# Altium schematic symbol library Diod.SchLib: 21 symbols
Pins are listed as number, name and electrical type; pins without a type are passive.

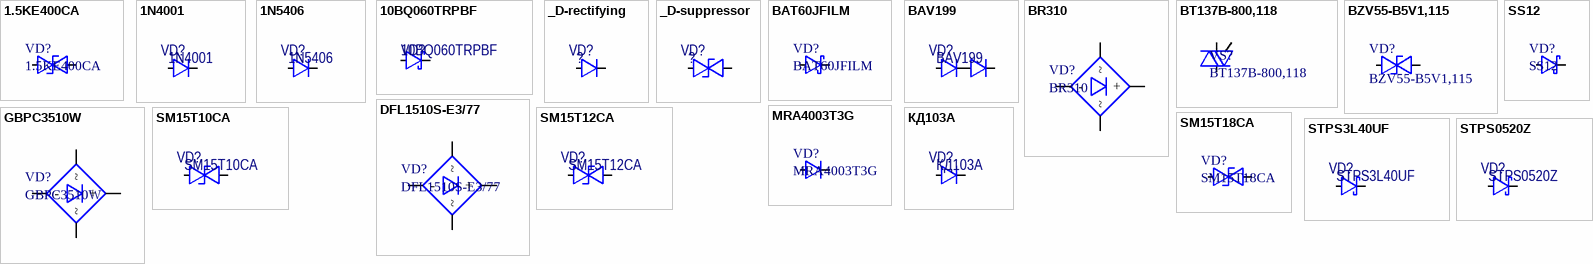
[diagram p0: symbols 1.5KE400CA to КД103А]

## 1.5KE400CA
designator VD?
Супрессор 342VWM 706VC AXIAL; Manufacturer: STMicroelectronics; Number of Elements: 1; Reverse Breakdown Voltage: 380V; Max Surge Current: 1mA; Reverse Standoff Voltage: 342V; Clamping Voltage: 706V; Peak Pulse Power: 1.5kW; Polarity: Bidirectional; Peak Pulse Current: 14A; Leakage Current: 1uA; Power Line Protection: No; Element Configuration: Single; Max Breakdown Voltage: 420V; Voltage Rating (DC): 400V; Capacitance: 390pF; Supplier 1: Digikey; ManufacturerPartNumber: 1.5KE400CA; Stock 1: 2967; Pricing 1: 1=0.92, 10=0.82, 100=0.6396 (USD); Mount: Through Hole; Number of Pins: 2; Weight: 0.0002lb; Min Operating Temperature: -65°C; Max Operating Temperature: 175°C; Package Quantity: 1; Packaging: Tape and Reel; Min Breakdown Voltage: 380V; Breakdown Voltage: 380V; Test Current: 1mA; Direction: Bidirectional; Number of Bidirectional Channels: 1; Termination: Through Hole; Max Reverse Leakage Current: 1uA; Supply Voltage: 342V; Power Dissipation: 1.5kW; Diameter: 5.3mm; Length: 9.5mm; Height: 5.3mm; Width: 5.3mm; Radiation Hardening: No; Lead Free: Lead Free; REACH SVHC: No SVHC; ComponentLink1URL: https://datasheet.ciiva.com/15143/getdatasheetpartid-92652-15143405.pdf; ComponentLink1Description: https://datasheet.ciiva.com/15143/getdatasheetpartid-92652-15143405.pdf; ComponentLink2URL: https://datasheet.ciiva.com/27052/1380244-27052131.pdf; ComponentLink2Description: https://datasheet.ciiva.com/27052/1380244-27052131.pdf; ComponentLink3URL: https://datasheet.ciiva.com/14535/70013809-14535645.pdf; ComponentLink3Description: https://datasheet.ciiva.com/14535/70013809-14535645.pdf; ComponentLink4URL: https://datasheet.ciiva.com/338/cd00000663-338903.pdf; ComponentLink4Description: https://datasheet.ciiva.com/338/cd00000663-338903.pdf; ComponentLink5URL: https://datasheet.ciiva.com/14161/1-5ke-eng-datasheet-14161660.pdf; ComponentLink5Description: https://datasheet.ciiva.com/14161/1-5ke-eng-datasheet-14161660.pdf; ComponentLink6URL: https://datasheet.ciiva.com/338/cd00000663-338902.pdf; ComponentLink6Description: https://datasheet.ciiva.com/338/cd00000663-338902.pdf; ComponentLink7URL: https://datasheet.ciiva.com/1275/1689681-1275557.pdf; ComponentLink7Description: https://datasheet.ciiva.com/1275/1689681-1275557.pdf; Supplier Part Number 1: 497-2909-1-ND
footprint DO-201AD
pins: A, K

## 1N4001
designator VD?
Rectifying diode; ComponentLink1Description: Datasheet; ComponentLink1URL: http://www.promelec.ru/pdf/1N400x.pdf; Price: 5; Package: штырьевой; ComponentLink2Description: Datasheet-local; ComponentLink2URL: *; ManufacturerPartNumber: 1N4001
footprint PinDiode (Simple pin diode with A and K designators)
pins: A, K

## 1N5406
designator VD?
Выпрямительный диод 600В 3А; ComponentLink1Description: Datasheet; ComponentLink1URL: http://www.vishay.com/docs/88516/1n5400.pdf; Price: 5; Package: DO-201AD; Supplier: Промэлектроника; ComponentLink2Description: Datasheet-local; ManufacturerPartNumber: 1N5406
footprint DO-201AD
pins: A, K

## 10BQ060TRPBF
designator VD?
DIODE SCHOTTKY 60V 1A DO214AA; Manufacturer: Vishay Semiconductor Diodes Division; ComponentLink1URL: http://www.vishay.com/docs/94113/vs-10bq060pbf.pdf; ComponentLink1Description: http://www.vishay.com/docs/94113/vs-10bq060pbf.pdf; Note: *; Price: 5; Supplier: *; ManufacturerPartNumber: 10BQ060TRPBF
footprint SHOTKY 4.1x3.3
pins: A, K

## _D-rectifying
designator VD?, comment ?
Rectifying diode; ComponentLink1Description: Datasheet; ComponentLink2Description: Datasheet-local; ComponentLink2URL: *; ManufacturerPartNumber: ?
pins: A, K

## _D-suppressor
designator VD?, comment ?
Diod suppressor; ComponentLink1Description: Datasheet; ComponentLink2Description: Datasheet-local; ComponentLink2URL: *; ManufacturerPartNumber: ?
pins: A, K

## BAT60JFILM
designator VD?
DIODE SCHOTTKY 10V 3A SOD323; Manufacturer: STMicroelectronics; Peak Reverse Current: 7.5uA; Peak Non-Repetitive Surge Current: 5A; Element Configuration: Single; Forward Voltage: 580mV; Polarity: Standard; Supplier 1: Mouser; Manufacturer Part Number: BAT60JFILM; Stock 1: 5353; Pricing 1: 1=0.46, 10=0.296, 50=0.296, 100=0.127, 1000=0.098, 10000=0.066 (USD); Mount: Surface Mount; Number of Pins: 2; Weight: 0.01lb; Contact Plating: Tin,Matte; Min Operating Temperature: -65°C; Max Operating Temperature: 150°C; Forward Current: 3A; Max Repetitive Reverse Voltage (Vrrm): 10V; Packaging: Tape and Reel; Package Quantity: 1; Average Rectified Current: 3A; Max Forward Surge Current (Ifsm): 5A; Voltage Rating (DC): 10V; Output Current: 3A; Current Rating: 3A; Max Reverse Voltage (DC): 10V; Max Surge Current: 5A; Max Reverse Leakage Current: 7.5uA; Length: 1.8mm; Height: 1.07mm; Width: 1.45mm; Radiation Hardening: No; REACH SVHC: No SVHC; Lead Free: Lead Free; ComponentLink1URL: https://datasheet.ciiva.com/23916/cd00001944-23916545.pdf; ComponentLink1Description: https://datasheet.ciiva.com/23916/cd00001944-23916545.pdf; ComponentLink2URL: https://datasheet.ciiva.com/1200/1689728-1200741.pdf; ComponentLink2Description: https://datasheet.ciiva.com/1200/1689728-1200741.pdf; ComponentLink3URL: https://datasheet.ciiva.com/4714/cd00001944-96586-4714681.pdf; ComponentLink3Description: https://datasheet.ciiva.com/4714/cd00001944-96586-4714681.pdf; ComponentLink4URL: https://datasheet.ciiva.com/17078/bat60jfilm-17078717.pdf; ComponentLink4Description: https://datasheet.ciiva.com/17078/bat60jfilm-17078717.pdf; ComponentLink5URL: https://datasheet.ciiva.com/915/cd00001944-915607.pdf; ComponentLink5Description: https://datasheet.ciiva.com/915/cd00001944-915607.pdf; ComponentLink6URL: https://datasheet.ciiva.com/915/cd00001944-915608.pdf; ComponentLink6Description: https://datasheet.ciiva.com/915/cd00001944-915608.pdf; ComponentLink7URL: https://datasheet.ciiva.com/915/cd00001944-915609.pdf; ComponentLink7Description: https://datasheet.ciiva.com/915/cd00001944-915609.pdf; ComponentLink8URL: https://datasheet.ciiva.com/15144/getdatasheetpartid-91415-15144683.pdf; ComponentLink8Description: https://datasheet.ciiva.com/15144/getdatasheetpartid-91415-15144683.pdf; Supplier Part Number 1: 511-BAT60JFILM
footprint SOD-323
pins: 1, 2

## BAV199
designator VD?
Epitaxial, medium-speed switching,  double diode in a small SOT23 plastic  SMD package. The diodes are  connected in series.; Manufacturer: NXP; ManufacturerPartNumber: BAV199; Price: 0.73; ComponentLink1Description: Datasheet; Package: SOT23; Supplier: Промэлектроника; ComponentLink1URL: http://www.nxp.com/documents/data_sheet/BAV199.pdf
footprint SOT23 (TO-236AB) (SOT23, 3-Leads, Body 2,90x2,45mm, Pitch 0,95mm, IPC Low Density)
pins: 1, 2, 3

## BR310
designator VD?
Bridge Rectifiers 3A 1000V; Manufacturer: Rectron; Max Surge Current: 50A; Max Reverse Leakage Current: 5uA; Supplier 1: Arrow; ManufacturerPartNumber: BR310; Stock 1: 200; Pricing 1: 1=0.6132, 100=0.5362, 500=0.4477, 1000=0.3925, 2000=0.3715, 5000=0.359, 10000=0.3386, 25000=0.3268 (USD); Number of Pins: 3; Min Operating Temperature: -55°C; Max Operating Temperature: 150°C; Package Quantity: 200; Packaging: Bulk; Length: 15.7mm; Height: 5.4mm; Width: 15.7mm; ComponentLink1URL: https://datasheet.ciiva.com/24447/br305-br310-24447252.pdf; ComponentLink1Description: https://datasheet.ciiva.com/24447/br305-br310-24447252.pdf; ComponentLink2URL: https://datasheet.ciiva.com/12330/br305-br310-27971-12330916.pdf; ComponentLink2Description: https://datasheet.ciiva.com/12330/br305-br310-27971-12330916.pdf; Supplier Part Number 1: BR310
footprint BR3 (Diode Bridge)
pins: 1 ~, 2 +, 3 ~, 4 -

## BT137B-800,118
designator VS?
TRIAC 800V 8A D2PAK; Manufacturer: NXP Semiconductors; Hold Current: 20mA; Element Configuration: Single; Supplier 1: Mouser; Manufacturer Part Number: BT137B-800,118; Pricing 1: 1=0.79, 10=0.571, 100=0.4, 800=0.32, 2400=0.27, 9600=0.26, 24800=0.25 (USD); Mount: Surface Mount; Case/Package: D2PAK; Number of Pins: 3; Min Operating Temperature: -40°C; Max Operating Temperature: 125°C; Packaging: Tape and Reel; Max Repetitive Reverse Voltage (Vrrm): 800V; Package Quantity: 800; RMS Current (Irms): 8A; Radiation Hardening: No; Lead Free: Lead Free; ComponentLink1URL: https://datasheet.ciiva.com/15140/getdatasheetpartid-388484-15140795.pdf; ComponentLink1Description: https://datasheet.ciiva.com/15140/getdatasheetpartid-388484-15140795.pdf; ComponentLink2URL: https://datasheet.ciiva.com/4748/bt137b-series-110367-4748806.pdf; ComponentLink2Description: https://datasheet.ciiva.com/4748/bt137b-series-110367-4748806.pdf; Supplier Part Number 1: 771-BT137B-800118
footprint DPAK254P1530X450-3N (D2-PAK, 3-Pads, Body 8,60x8,51mm (max), IPC Medium Density)
pins: 1 MT1, 3 G, 4 MT2

## BZV55-B5V1,115
designator VD?
DIODE ZENER 5.1V 500MW LLDS; Manufacturer: NXP Semiconductors; Voltage Tolerance: 2%; Element Configuration: Single; Impedance: 60R; Max Reverse Leakage Current: 2uA; Test Current: 5mA; ESD Protection: No; Zener Current: 250mA; Supplier 1: Digi-Key; ManufacturerPartNumber: BZV55-B5V1,115; Stock 1: 7645; Pricing 1: 1=0.36, 10=0.266, 100=0.1507, 500=0.0998, 1000=0.0765 (USD); Mount: Surface Mount; Number of Pins: 2; Weight: 0.01lb; Contact Plating: Tin; Min Operating Temperature: -65°C; Max Operating Temperature: 200°C; Packaging: Tape and Reel; Zener Voltage: 5.1V; Power Dissipation: 500mW; Package Quantity: 1; Max Power Dissipation: 500mW; Tolerance: 2%; Termination: SMD/SMT; Length: 3.7mm; Height: 1.6mm; Width: 1.6mm; Radiation Hardening: No; REACH SVHC: No SVHC; Lead Free: Lead Free; ComponentLink1URL: https://datasheet.ciiva.com/10644/bzv55-ser-10644430.pdf; ComponentLink1Description: https://datasheet.ciiva.com/10644/bzv55-ser-10644430.pdf; ComponentLink2URL: https://datasheet.ciiva.com/6982/1498690-6982075.pdf; ComponentLink2Description: https://datasheet.ciiva.com/6982/1498690-6982075.pdf; ComponentLink3URL: https://datasheet.ciiva.com/22620/bzv55-ser-22620255.pdf; ComponentLink3Description: https://datasheet.ciiva.com/22620/bzv55-ser-22620255.pdf; ComponentLink4URL: https://datasheet.ciiva.com/16473/bzv55-ser-16473982.pdf; ComponentLink4Description: https://datasheet.ciiva.com/16473/bzv55-ser-16473982.pdf; ComponentLink5URL: https://datasheet.ciiva.com/892/bzv55-ser-892566.pdf; ComponentLink5Description: https://datasheet.ciiva.com/892/bzv55-ser-892566.pdf; ComponentLink6URL: https://datasheet.ciiva.com/892/bzv55-ser-892565.pdf; ComponentLink6Description: https://datasheet.ciiva.com/892/bzv55-ser-892565.pdf; ComponentLink7URL: https://datasheet.ciiva.com/8026/bzv55-ser-8026313.pdf; ComponentLink7Description: https://datasheet.ciiva.com/8026/bzv55-ser-8026313.pdf; ComponentLink8URL: https://datasheet.ciiva.com/892/bzv55-ser-892567.pdf; ComponentLink8Description: https://datasheet.ciiva.com/892/bzv55-ser-892567.pdf; Supplier Part Number 1: 1727-4955-1-ND
footprint DIOMELF3515N (MELF Diode, 2-Leads, Body 3,50x1,53mm, IPC Medium Density)
pins: A, K

## DFL1510S-E3/77
designator VD?
Bridge Rectifiers 1000 Volt 1.5 Amp 50 Amp IFSM; Manufacturer: Vishay Semiconductors; Peak Reverse Current: 5uA; Max Surge Current: 50A; Forward Voltage: 1.1V; Max Repetitive Reverse Voltage (Vrrm): 1kV; Number of Elements: 1; Average Rectified Current: 1.5A; Element Configuration: Single; Supplier 1: Digikey; ManufacturerPartNumber: DFL1510S-E3/77; Stock 1: 0; Pricing 1: 3000=0.2416 (USD); Mount: Surface Mount; Case/Package: SMD/SMT; Number of Pins: 4; Min Operating Temperature: -55°C; Max Operating Temperature: 150°C; Packaging: Tape and Reel; Package Quantity: 1000; Max Reverse Leakage Current: 5uA; Peak Non-Repetitive Surge Current: 50A; Length: 8.51mm; Height: 3.3mm; Width: 6.5mm; Radiation Hardening: No; Lead Free: Lead Free; ComponentLink1URL: https://datasheet.ciiva.com/26912/getdatasheetpartid-571062-26912847.pdf; ComponentLink1Description: https://datasheet.ciiva.com/26912/getdatasheetpartid-571062-26912847.pdf; ComponentLink2URL: https://datasheet.ciiva.com/13951/dfl15005-13951463.pdf; ComponentLink2Description: https://datasheet.ciiva.com/13951/dfl15005-13951463.pdf; ComponentLink3URL: https://datasheet.ciiva.com/16497/dfl15005-16497691.pdf; ComponentLink3Description: https://datasheet.ciiva.com/16497/dfl15005-16497691.pdf; Supplier Part Number 1: DFL1510S-E3/77-ND
footprint DFS (DFS, 4-Leads, Body 8,32x6,35mm, Pitch 5,20mm, IPC Medium Density)
pins: 1 +, 2 -, 3 ~, 4 ~

## GBPC3510W
designator VD?
Bridge Rectifiers 35 Amp 1000 Volt; Manufacturer: Taiwan Semiconductor; Forward Current: 35A; Max Repetitive Reverse Voltage (Vrrm): 1kV; Peak Reverse Current: 5uA; Max Surge Current: 400A; Element Configuration: Single; Capacitance: 180pF; Supplier 1: Mouser; ManufacturerPartNumber: GBPC3510W; Stock 1: 147; Pricing 1: 1=2.95, 10=2.39, 50=2.39, 100=1.91, 1000=1.38, 10000=1.2 (USD); Number of Pins: 4; Min Operating Temperature: -50°C; Max Operating Temperature: 150°C; Packaging: Bulk; Package Quantity: 100; Max Reverse Leakage Current: 5uA; Current Rating: 35A; Output Current: 35A; Max Forward Surge Current (Ifsm): 400A; Voltage Rating (DC): 1kV; Length: 29mm; Height: 11.23mm; Width: 29mm; REACH SVHC: No SVHC; Lead Free: Lead Free; ComponentLink1URL: https://datasheet.ciiva.com/14152/gbpc-series-eng-tds-14152201.pdf; ComponentLink1Description: https://datasheet.ciiva.com/14152/gbpc-series-eng-tds-14152201.pdf; Supplier Part Number 1: 821-GBPC3510W
footprint GBPC-W
pins: 1 ~, 2 ~, 3 +, 4 -

## MRA4003T3G
designator VD?
Выпрямительный диод 300В 1А SMA; Manufacturer: ON Semiconductor; Forward Voltage: 1.18V; Polarity: Standard; Voltage Rating (DC): 300V; Current Rating: 1A; Max Surge Current: 30A; Peak Reverse Current: 10uA; Element Configuration: Single; Supplier 1: Digi-Key; Manufacturer Part Number: MRA4003T3G; Stock 1: 104140; Pricing 1: 1=0.33, 10=0.267, 100=0.1415, 500=0.0931, 1000=0.0633 (USD); Case/Package: SMA; Number of Pins: 2; Min Operating Temperature: -55°C; Max Operating Temperature: 175°C; Packaging: Tape and Reel; Output Current: 1A; Forward Current: 1A; Package Quantity: 1; Average Rectified Current: 1A; Max Repetitive Reverse Voltage (Vrrm): 300V; Max Forward Surge Current (Ifsm): 30A; Peak Non-Repetitive Surge Current: 30A; Reverse Voltage: 300V; Max Reverse Voltage (DC): 300V; Length: 4.32mm; Height: 2mm; Width: 2.6mm; Radiation Hardening: No; REACH SVHC: No SVHC; Lead Free: Lead Free; ComponentLink1URL: https://datasheet.ciiva.com/34301/1094942-34301977.pdf; ComponentLink1Description: https://datasheet.ciiva.com/34301/1094942-34301977.pdf; ComponentLink2URL: https://datasheet.ciiva.com/30479/0900766b8078eb73-30479294.pdf; ComponentLink2Description: https://datasheet.ciiva.com/30479/0900766b8078eb73-30479294.pdf; ComponentLink3URL: https://datasheet.ciiva.com/7962/1639171-7962839.pdf; ComponentLink3Description: https://datasheet.ciiva.com/7962/1639171-7962839.pdf; ComponentLink4URL: https://datasheet.ciiva.com/25954/mra4003t3-d-25954268.pdf; ComponentLink4Description: https://datasheet.ciiva.com/25954/mra4003t3-d-25954268.pdf; ComponentLink5URL: https://datasheet.ciiva.com/8294/mra4003t3-d-8294938.pdf; ComponentLink5Description: https://datasheet.ciiva.com/8294/mra4003t3-d-8294938.pdf; ComponentLink6URL: https://datasheet.ciiva.com/16474/mra4003t3-d-16474317.pdf; ComponentLink6Description: https://datasheet.ciiva.com/16474/mra4003t3-d-16474317.pdf; ComponentLink7URL: https://datasheet.ciiva.com/915/mra4003t3-d-915451.pdf; ComponentLink7Description: https://datasheet.ciiva.com/915/mra4003t3-d-915451.pdf; ComponentLink8URL: https://datasheet.ciiva.com/8299/mra4003t3-d-8299896.pdf; ComponentLink8Description: https://datasheet.ciiva.com/8299/mra4003t3-d-8299896.pdf; ComponentLink9URL: https://datasheet.ciiva.com/915/mra4003t3-d-915449.pdf; ComponentLink9Description: https://datasheet.ciiva.com/915/mra4003t3-d-915449.pdf; ComponentLink10URL: https://datasheet.ciiva.com/915/mra4003t3-d-915450.pdf; ComponentLink10Description: https://datasheet.ciiva.com/915/mra4003t3-d-915450.pdf; Supplier Part Number 1: MRA4003T3GOSCT-ND
footprint SMA (SODFL, 2-Leads, Body 2,60x5,21mm, IPC Medium Density)
pins: A, K

## SM15T10CA
designator VD?
Супрессор 10В; Manufacturer: ST Microelectronics; Note: 10 В; ComponentLink1Description: Datasheet; ComponentLink1URL: http://www.st.com/st-web-ui/static/active/en/resource/technical/document/datasheet/CD00000724.pdf; Price: 16,73; Package: SMC/DO-214AB; Supplier: Промэлектроника; ComponentLink2Description: Datasheet-local; ComponentLink2URL: *; ManufacturerPartNumber: SM15T10CA
footprint SUPRES3216X18N
pins: 1, 2

## SM15T12CA
designator VD?
Супрессор 12В; Manufacturer: ST Microelectronics; Note: 12 В; ComponentLink1Description: Datasheet; ComponentLink1URL: http://www.st.com/st-web-ui/static/active/en/resource/technical/document/datasheet/CD00000724.pdf; Price: 16,73; Package: SMC/DO-214AB; Supplier: Промэлектроника; ComponentLink2Description: Datasheet-local; ComponentLink2URL: *; ManufacturerPartNumber: SM15T12CA
footprint SUPRES3216X18N
pins: 1, 2

## SM15T18CA
designator VD?
Супрессор 18В; Manufacturer: STMicroelectronics; Supply Voltage: 15.3V; Max Surge Current: 1mA; Clamping Voltage: 32.5V; Peak Pulse Power: 1.5kW; Breakdown Voltage: 17.1V; Polarity: Bidirectional; Peak Pulse Current: 308A; Max Reverse Leakage Current: 200nA; Element Configuration: Single; Number of Elements: 1; Power Line Protection: No; Max Breakdown Voltage: 18.9V; Capacitance: 4.3nF; Voltage Rating (DC): 18V; Supplier 1: Digikey; Stock 1: 2500; Pricing 1: 2500=0.2847, 5000=0.2651, 12500=0.2618 (USD); Mount: Surface Mount; Case/Package: SMC; Number of Pins: 2; Min Operating Temperature: -55°C; Max Operating Temperature: 150°C; Packaging: Tape and Reel; Package Quantity: 1; Reverse Standoff Voltage: 15.3V; Test Current: 1mA; Direction: Bidirectional; Min Breakdown Voltage: 17.1V; Leakage Current: 200nA; Reverse Breakdown Voltage: 17.1V; Max Power Dissipation: 1.5kW; Number of Bidirectional Channels: 1; Power Dissipation: 1.5kW; Length: 7.15mm; Height: 2.45mm; Width: 6.25mm; Radiation Hardening: No; REACH SVHC: No SVHC; Lead Free: Lead Free; ComponentLink1URL: https://datasheet.ciiva.com/14161/sm15t-eng-tds-14161644.pdf; ComponentLink1Description: https://datasheet.ciiva.com/14161/sm15t-eng-tds-14161644.pdf; ComponentLink2URL: https://datasheet.ciiva.com/338/cd00000724-338636.pdf; ComponentLink2Description: https://datasheet.ciiva.com/338/cd00000724-338636.pdf; ComponentLink3URL: https://datasheet.ciiva.com/3022/cd00000724-3022031.pdf; ComponentLink3Description: https://datasheet.ciiva.com/3022/cd00000724-3022031.pdf; ComponentLink4URL: https://datasheet.ciiva.com/338/cd00000724-338637.pdf; ComponentLink4Description: https://datasheet.ciiva.com/338/cd00000724-338637.pdf; ComponentLink5URL: https://datasheet.ciiva.com/338/cd00000724-338635.pdf; ComponentLink5Description: https://datasheet.ciiva.com/338/cd00000724-338635.pdf; ComponentLink6URL: https://datasheet.ciiva.com/16212/cd00000724-16212742.pdf; ComponentLink6Description: https://datasheet.ciiva.com/16212/cd00000724-16212742.pdf; ComponentLink7URL: https://datasheet.ciiva.com/7973/1670952-7973349.pdf; ComponentLink7Description: https://datasheet.ciiva.com/7973/1670952-7973349.pdf; ComponentLink8URL: https://datasheet.ciiva.com/26912/getdatasheetpartid-234533-26912535.pdf; ComponentLink8Description: https://datasheet.ciiva.com/26912/getdatasheetpartid-234533-26912535.pdf; ComponentLink9URL: https://datasheet.ciiva.com/7662/1670952-7662135.pdf; ComponentLink9Description: https://datasheet.ciiva.com/7662/1670952-7662135.pdf; Supplier Part Number 1: 497-7865-2-ND; ManufacturerPartNumber: SM15T18CA
footprint SUPRES3216X18N
pins: 1, 2

## SS12
designator VD?
DIODE SCHOTTKY 20V 1A SOD323; Manufacturer: ON semiconductor; Note: Диод шоттки. 500 мВ прямое напряжение; ComponentLink1Description: Datasheet; ComponentLink1URL: https://www.fairchildsemi.com/datasheets/SS/SS12.pdf; ManufacturerPartNumber: SS12; Package: SMA (DO-214AC); Price: 2; Supplier: Промэлектроника
footprint DIOM4427X27N (Molded Diode, 2-Leads, Body 4,38x2,73mm, IPC Medium Density)
pins: 1, 2

## STPS3L40UF
designator VD?
Диод Шоттки 40В 3А; ComponentLink1Description: Datasheet; ComponentLink1URL: http://www.st.com/web/en/resource/technical/document/datasheet/CD00002082.pdf; Price: 5; Package: SMC; ComponentLink2Description: Datasheet-local; ComponentLink2URL: *; ManufacturerPartNumber: STPS3L40UF
footprint SMC (Molded Diode, 2-Leads, Body 6,88x5,90mm, IPC Low Density)
pins: A, K

## STPS0520Z
designator VD?
Диод Шоттки 20В 500мA SOD123; Manufacturer: STMicroelectronics; ManufacturerPartNumber: STPS0520Z; ComponentLink1URL: http://www.st.com/web/en/resource/technical/document/datasheet/CD00002261.pdf; ComponentLink1Description: http://www.st.com/web/en/resource/technical/document/datasheet/CD00002261.pdf; Price: 4; Note: *; Supplier: *
footprint SOD-123
pins: A, K

## КД103А
designator VD?
Rectifying diode; ComponentLink1Description: Datasheet; Package: штырьевой; ComponentLink2Description: Datasheet-local; ComponentLink2URL: *; ManufacturerPartNumber: КД103А
footprint PinDiode (Simple pin diode with A and K designators)
pins: A, K